# EAGLE library part MCP6004 (library TuesdayR3)
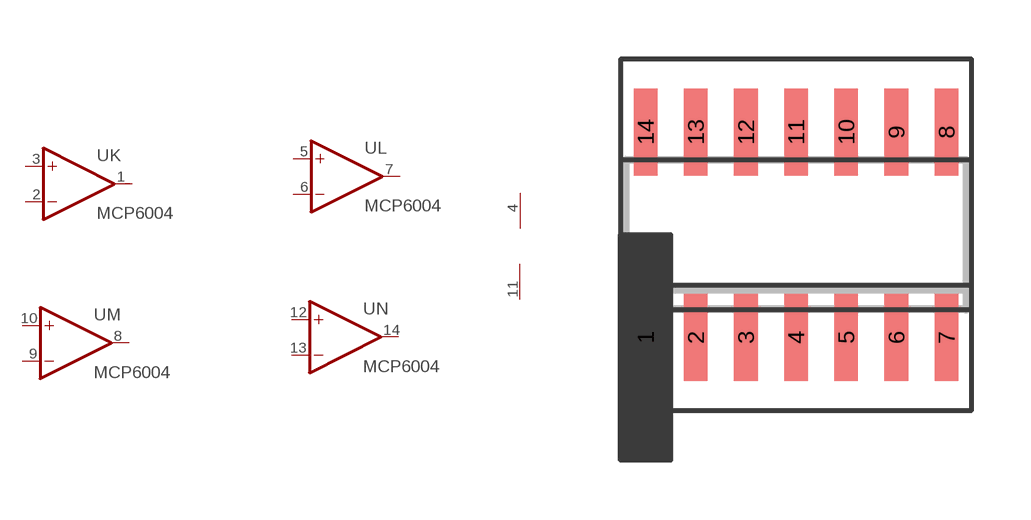
[diagram p0: symbol with the pads of SO14; footprint SO14]

Designator prefix -; gates K=OPAMP L=OPAMP M=OPAMP N=OPAMP O=PWR+-

## MCP6004  [SO14]
1  K:OUT  out
2  K:-IN  in
3  K:+IN  in
4  O:V+  pwr
5  L:+IN  in
6  L:-IN  in
7  L:OUT  out
8  M:OUT  out
9  M:-IN  in
10  M:+IN  in
11  O:V-  pwr
12  N:+IN  in
13  N:-IN  in
14  N:OUT  out

## Footprint SO14 (pad centres in mm)
Small Outline Package 14
smd 0.6 x 2.2: 1 -3.81,-2.6; 2 -2.54,-2.6; 3 -1.27,-2.6; 4 0,-2.6; 5 1.27,-2.6; 6 2.54,-2.6; 7 3.81,-2.6; 8 3.81,2.6; 9 2.54,2.6; 10 1.27,2.6; 11 0,2.6; 12 -1.27,2.6; 13 -2.54,2.6; 14 -3.81,2.6